# Altium schematic symbol library Lib_pool.SchLib: 1 symbol
Pins are listed as number, name and electrical type; pins without a type are passive.

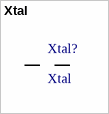
[diagram p0: symbol Xtal]

## Xtal
designator Xtal?
footprint Xtal
pins: 1, 2